# Altium schematic symbol library DAC8552.SchLib: 2 symbols
Pins are listed as number, name and electrical type; pins without a type are passive.

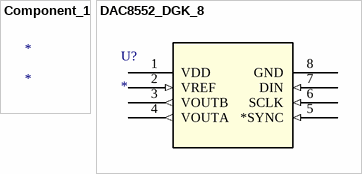
[diagram p0: symbols Component_1 to DAC8552_DGK_8]

## Component_1
designator *

## DAC8552_DGK_8
designator U?
Imported; Manufacturer: Texas Instruments; GENERIC_PART_NUMBER: DAC8552; Manufacturer_Part_Number: dac8552_dgk_8; INDUSTRY_STD_PKG_TYPE: MSOP; FAMILY_NAME: PRECISION DAC (=<10MSPS); PIN_COUNT: 8; PACKAGE_DESIGNATOR: DGK; Datasheet_URL: http://www.ti.com/lit/gpn/DAC8552; Vendor: Texas Instruments; Value: Value; Type: Type; RefDes: RefDes
footprint DGK8
pins: 1 VDD (power), 2 VREF (in), 3 VOUTB (out), 4 VOUTA (out), 5 *SYNC (in), 6 SCLK (in), 7 DIN (in), 8 GND (power)